# EAGLE library part EM14XXX- (library m_switch-mechanical)
EM14 - 14 mm Rotary Optical Encoder w/Switch
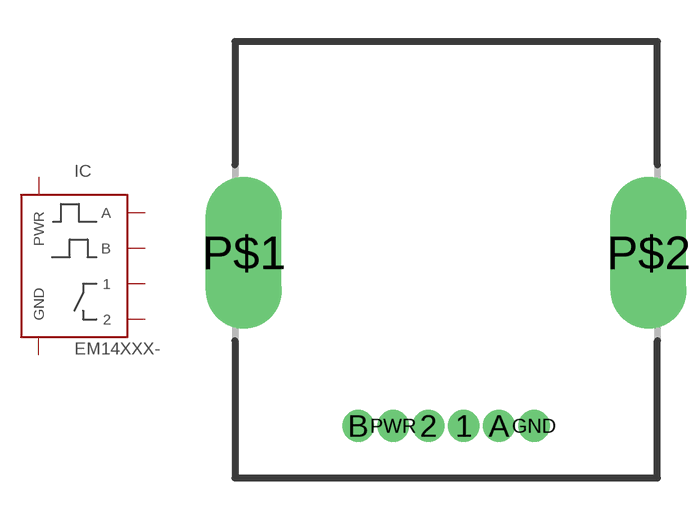
[diagram p1: symbol with the pads of BOURNS-EM14-OPTICAL_ENCODER; footprint BOURNS-EM14-OPTICAL_ENCODER]

Designator prefix IC

## EM14XXX-XXX-L  [BOURNS-EM14-OPTICAL_ENCODER]
1  1  pas
2  2  pas
A  A  pas
B  B  pas
GND  GND  pas
PWR  PWR  pas

## Footprint BOURNS-EM14-OPTICAL_ENCODER (pad centres in mm)
Bourns EM14 14mm Rotary Optical Encoder with Switch -L Axial style
drill 0.635 pad 1.016: 1 0.635,-6.248; 2 -0.635,-6.248; A 1.905,-6.248; B -3.175,-6.248; GND 3.175,-6.248; PWR -1.905,-6.248
drill 1.829 long: P$1 -7.303,0; P$2 7.303,0